# Altium footprint library CAPAE430X550N.PcbLib: 1 footprints
Each footprint in its own frame and in the unit in brackets; x right, y up, seen from the top. Pads: shape width x height; smd on the part's side, far side on the other; paste and mask are expansions set on the pad; w line width, h text height; cw(c..) or ccw(c..) is an arc to the next point about the centre after c.
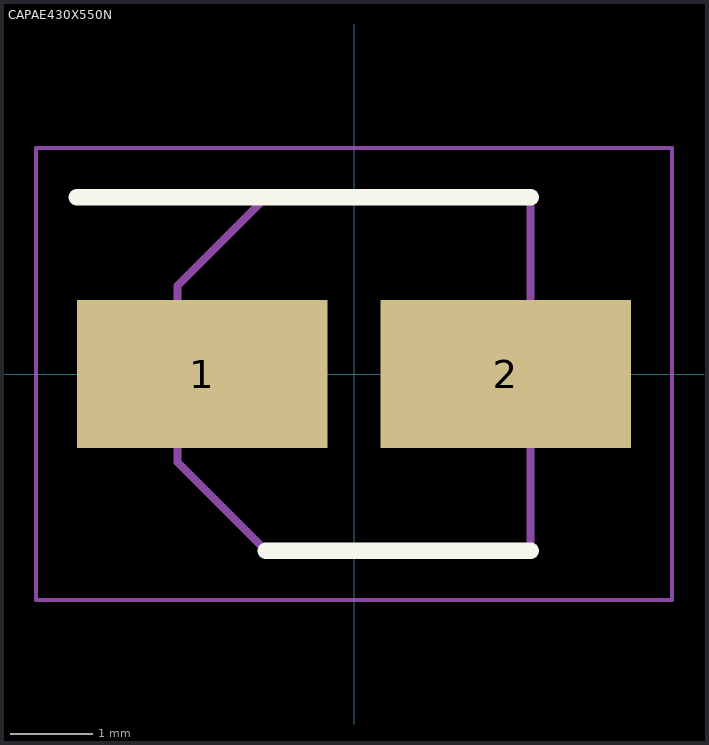
[diagram p0: the footprint, top view; thin cyan lines are the x and y axes]

## CAPAE430X550N [mm]
pads (2):
  rect 3.05x1.8 smd: 1(-1.85,0) 2(1.85,0)
L26-Silk Screen Top (Multiple PADS layers...):
  lines w0.2: -3.375,2.15 2.15,2.15 ; -1.075,-2.15 2.15,-2.15
L15 (Multiple PADS layers...):
  lines w0.1: -2.15,-1.075 -2.15,1.075 -1.075,2.15 2.15,2.15 2.15,-2.15 -1.075,-2.15 -2.15,-1.075
L20:
  lines w0.05: -3.875,-2.75 3.875,-2.75 3.875,2.75 -3.875,2.75 -3.875,-2.75